# EAGLE library part P-SS22F12 (library hacesoft)
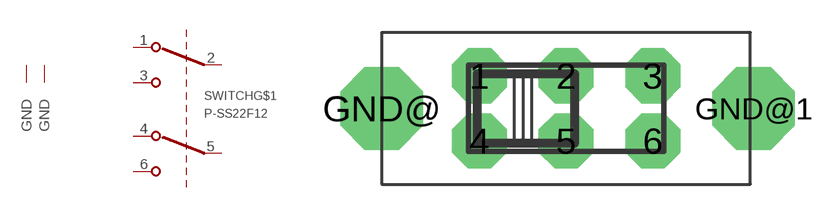
[diagram p5: symbol with the pads of P-SS22F12; footprint P-SS22F12]

Designator prefix SWITCH; gates G$1=P-SS22F12 G$2=GND_P-SS22F12

## P-SS22F12  [P-SS22F12]
1  G$1:1
2  G$1:2
3  G$1:3
4  G$1:4
5  G$1:5
6  G$1:6
GND@  G$2:GND  pwr
GND@1  G$2:GND  pwr

## Footprint P-SS22F12 (pad centres in mm)
drill 1.1 pad 2.54 octagon: 1 -4.072,1.508; 2 -0.072,1.508; 3 3.928,1.508; 4 -4.072,-1.492; 5 -0.072,-1.492; 6 3.928,-1.492
drill 2.2 pad 3.81 octagon: GND@ -8.572,0; GND@1 8.572,0